# Altium schematic symbol library SCH - POWER - SWITCHMODE - TI TPS63802DLA.SchLib: 1 symbol
Pins are listed as number, name and electrical type; pins without a type are passive.

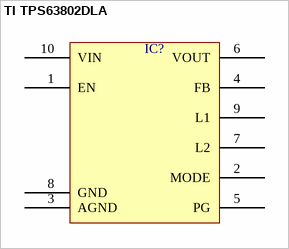
[diagram p0: symbol TI TPS63802DLA]

## TI TPS63802DLA
designator IC?  (value not drawn)
pins: 1 EN, 2 MODE, 3 AGND, 4 FB, 5 PG, 6 VOUT, 7 L2, 8 GND, 9 L1, 10 VIN